# Altium footprint library 1500uF_100V.PcbLib: 1 footprints
Each footprint in its own frame and in the unit in brackets; x right, y up, seen from the top. Pads: shape width x height; smd on the part's side, far side on the other; paste and mask are expansions set on the pad; w line width, h text height; cw(c..) or ccw(c..) is an arc to the next point about the centre after c.
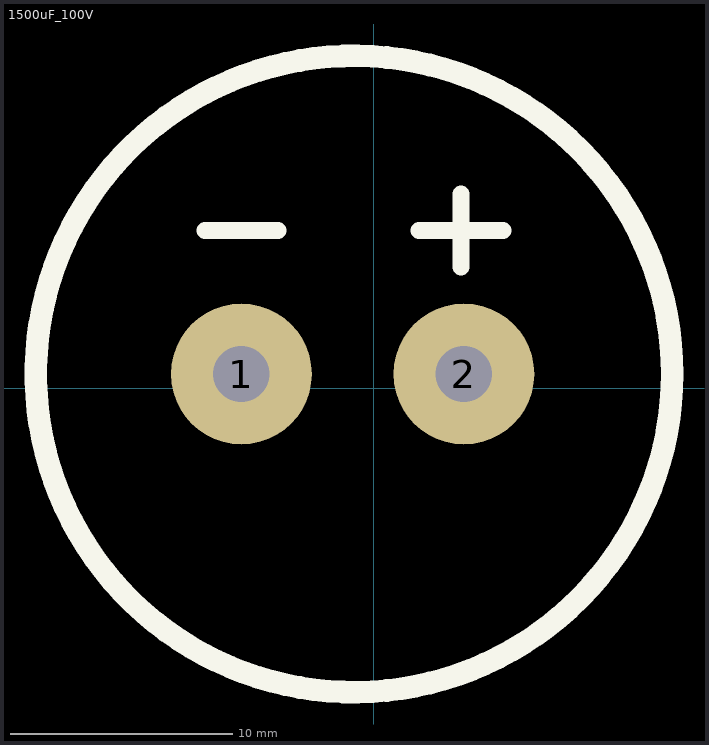
[diagram p0: the footprint, top view; thin cyan lines are the x and y axes]

## 1500uF_100V [mil]
pads (2):
  round 250 hole 100: 1(-235,25) 2(160,25)
Top Overlay:
  circle w40: c-35,25 r564.85
  lines w30: -300,280 -170,280 ; 80,280 230,280 ; 155,215 155,345
Bottom Overlay:
  circle w40: c-35,25 r564.85
3D body "HITANO 1500uF 100V EHU 105C (N).STEP": height 1294.3, standoff -209.63, extent -631.46,-568.98 553.58,616.06